# EAGLE library part CONN_ISP (library SNWCT_EAGLE_LBR)
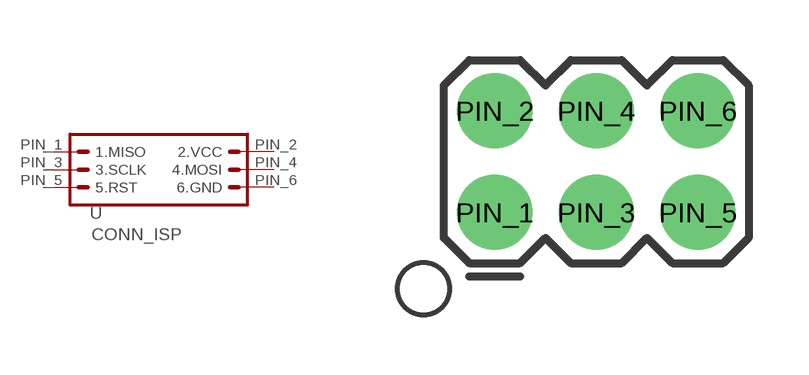
[diagram p9: symbol with the pads of 2X3; footprint 2X3]

Designator prefix -

## CONN_ISP  [2X3]
PIN_1  1.MISO
PIN_2  2.VCC
PIN_3  3.SCLK
PIN_4  4.MOSI
PIN_5  5.RST
PIN_6  6.GND

## Footprint 2X3 (pad centres in mm)
Plated Through Hole - 2x3 Specifications: Pin count:6 Pin pitch:0.1" Example device(s): CONN_03x2
drill 1.016 pad 1.88: PIN_1 0,0; PIN_2 0,2.54; PIN_3 2.54,0; PIN_4 2.54,2.54; PIN_5 5.08,0; PIN_6 5.08,2.54